# Altium footprint library PSU24_for_FAN.PcbLib: 28 footprints (part 2 of 2)
Each footprint in its own frame and in the unit in brackets; x right, y up, seen from the top. Pads: shape width x height; smd on the part's side, far side on the other; paste and mask are expansions set on the pad; w line width, h text height; cw(c..) or ccw(c..) is an arc to the next point about the centre after c.
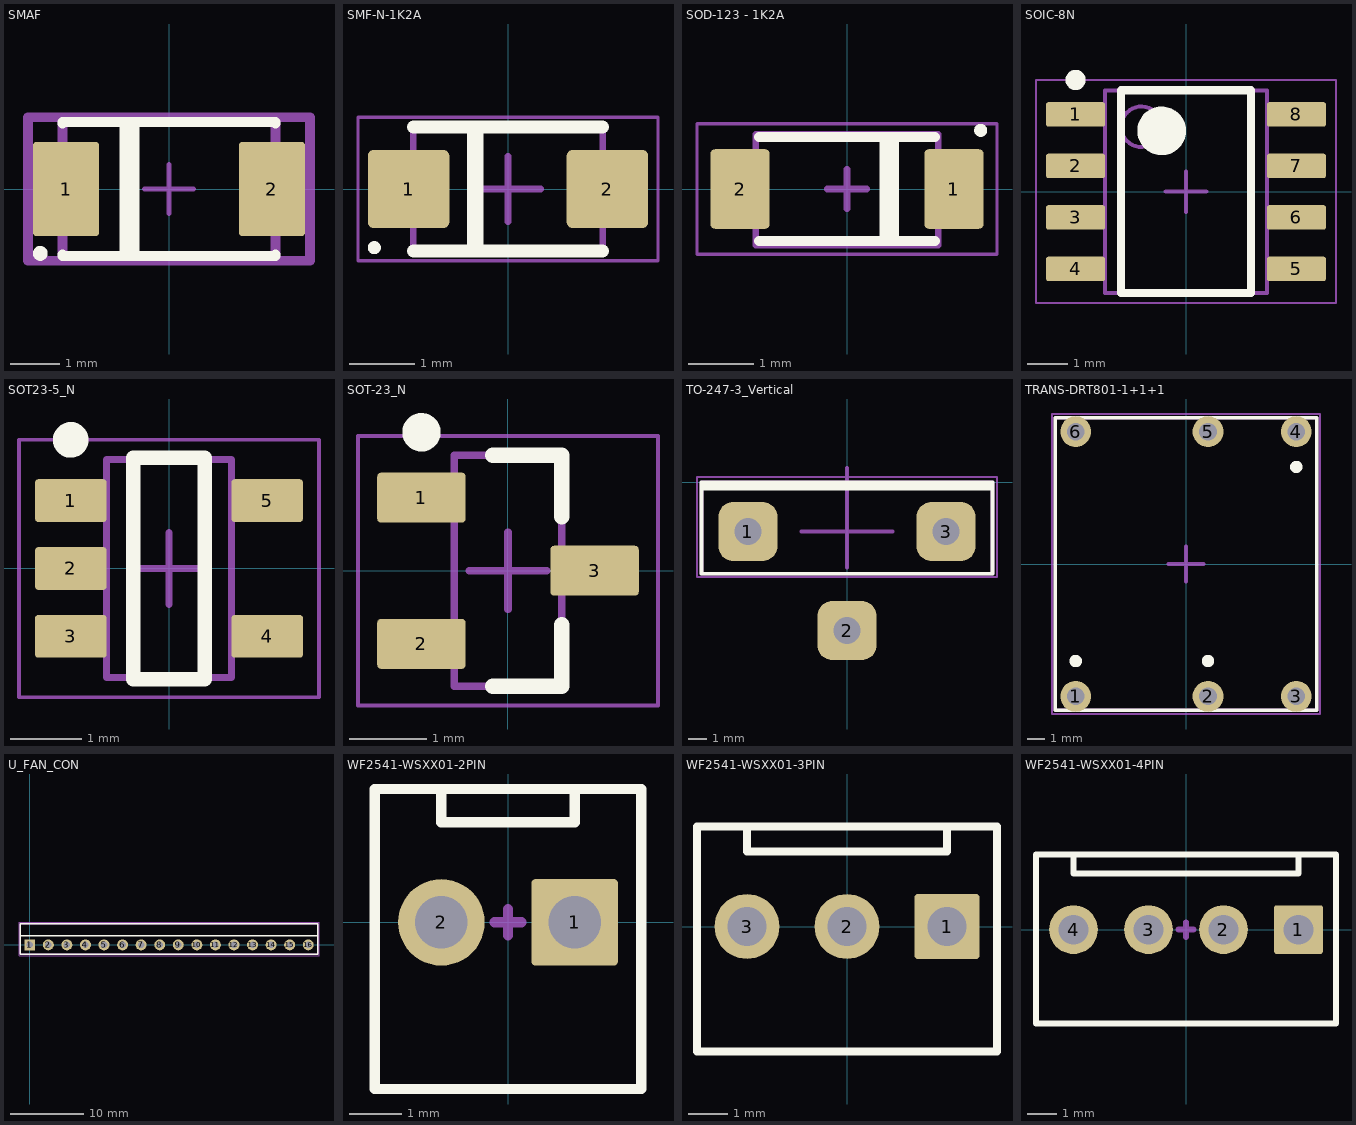
[diagram p1: the footprints below, top view; thin cyan lines are the x and y axes]

## SMAF [mm] "Flat SMA Package"
height 11.4
pads (2):
  rrect10% 1.34x1.9 smd paste+0 mask+0: 1(-2.08,0) 2(2.08,0)
Top Overlay:
  circle w0.2: c-2.6,-1.3 r0.05
  rectangle: -1,-1.35 -0.6,1.325
  lines w0.2: -2.15,-1.325 -2.15,-1.35 2.15,-1.35 2.15,-1.325 ; -2.15,1.325 -2.15,1.35 2.15,1.35 2.15,1.325
Top 3D Body:
  lines w0.2: -2.15,-1.35 2.15,-1.35 2.15,1.35 -2.15,1.35 -2.15,-1.35
Top Component Center:
  lines w0.1: -0.5,0 0.5,0 ; 0,-0.5 0,0.5
Top Assembly:
  lines w0.2: -2.85,-1.45 2.85,-1.45 2.85,1.45 -2.85,1.45 -2.85,-1.45
Top Courtyard:
  lines w0.2: -2.85,-1.45 2.85,-1.45 2.85,1.45 -2.85,1.45 -2.85,-1.45
3D body "Diode_ON_Semiconductor_FSV530AF_eec.STEP": height 1.1, standoff 0, extent -2.35,-1.25 2.35,1.25

## SMF-N-1K2A [mm] "SODFL, 2-Leads, Body 1.80x3.70mm, IPC Medium Density"
height 1.1
pads (2):
  rrect15% 1.25x1.2 smd: 1(-1.525,0) 2(1.525,0)
Top Overlay:
  circle w0.1: c-2.05,-0.9 r0.05
  region: -0.375,0.95 -0.625,0.95 -0.625,-0.95 -0.375,-0.95
  lines w0.2: -1.45,-0.95 1.45,-0.95 ; -1.45,0.95 1.45,0.95
Top Component Center:
  lines w0.1: -0.5,0 0.5,0 ; 0,-0.5 0,0.5
Top Assembly:
  lines w0.1: -1.45,-0.95 -1.45,0.95 1.45,0.95 1.45,-0.95 -1.45,-0.95
Top Courtyard:
  lines w0.05: -2.3,-1.1 -2.3,1.1 2.3,1.1 2.3,-1.1 -2.3,-1.1
3D body "DO-219AB SMF.step": height 1.25, standoff 0, extent -1.95,-0.95 1.95,0.95

## SOD-123 - 1K2A [mm] "SOD-123; 2 Leads; Body 2.7 x 1.6 mm, (LxW)"
height 1.15
pads (2):
  rrect15% 0.91x1.22 smd: 1(1.64,0) 2(-1.64,0)
Top Overlay:
  circle w0.1: c2.05,0.9 r0.05
  rectangle: 0.5,-0.8 0.8,0.8
  lines w0.152: -1.35,-0.8 1.35,-0.8 ; -1.35,0.8 1.35,0.8
Top Assembly:
  lines w0.1: -1.4,-0.862 1.4,-0.862 1.4,0.838 -1.4,0.838 -1.4,-0.862
Top Courtyard:
  lines w0.05: -2.3,-1 2.3,-1 2.3,1 -2.3,1 -2.3,-1
  lines w0.1: -0.3,0 0.3,0 ; 0,-0.3 0,0.3
3D body "SOD-123.step": height 1.42, standoff -0.03, extent -1.914,-0.862 1.936,0.838

## SOIC-8N [mm] "SOIC, 8-Leads, Body 5x4mm, Pitch 1.27mm, IPC Medium Density"
height 1.75
pads (8):
  rrect17% 1.45x0.6 smd: 1(-2.725,1.905) 2(-2.725,0.635) 3(-2.725,-0.635) 4(-2.725,-1.905) 5(2.725,-1.905) 6(2.725,-0.635) 7(2.725,0.635) 8(2.725,1.905)
Top Overlay:
  circle w0.6: c-0.6,1.5 r0.3
  circle w0.25: c-2.725,2.755 r0.125
  lines w0.2: -1.6,-2.5 1.6,-2.5 1.6,2.5 -1.6,2.5 -1.6,-2.5
Top Component Center:
  lines w0.1: -0.5,0 0.5,0 ; 0,-0.5 0,0.5
Top Assembly:
  circle w0.1: c-1.1,1.6 r0.5
  lines w0.1: -2,-2.5 2,-2.5 2,2.5 -2,2.5 -2,-2.5
Top Courtyard:
  lines w0.05: -3.7,-2.75 3.7,-2.75 3.7,2.75 -3.7,2.75 -3.7,-2.75
3D body "SOIC-8akaD0008AakaM08A.stp": height 1.63, standoff 0, extent -3,-2.45 3,2.45

## SOT23-5_N [mm] "SOT23, 5-Leads, Body 3.05x1.75mm, Pitch 0.95mm, IPC Medium Density"
height 1.45
pads (5):
  rrect15% 1x0.6 smd: 1(-1.375,0.95) 2(-1.375,0) 3(-1.375,-0.95) 4(1.375,-0.95) 5(1.375,0.95)
Top Overlay:
  circle w0.25: c-1.375,1.8 r0.125
  lines w0.2: -0.5,-1.55 0.5,-1.55 0.5,1.55 -0.5,1.55 -0.5,-1.55
Top Component Center:
  lines w0.1: -0.5,0 0.5,0 ; 0,-0.5 0,0.5
Top Assembly:
  lines w0.1: -0.875,-1.525 -0.875,1.525 0.875,1.525 0.875,-1.525 -0.875,-1.525
Top Courtyard:
  lines w0.05: -2.1,-1.8 -2.1,1.8 2.1,1.8 2.1,-1.8 -2.1,-1.8
3D body "DBV0005AaksMF05A.stp": height 1.08, standoff -0.01, extent -1.422,-1.461 1.422,1.46

## SOT-23_N [mm] "SOT23, 3-Leads, Body 2.9x1.3mm, Pitch 0.95mm, Lead Span 2.5mm, IPC Medium Density"
height 1.1
pads (3):
  rrect15% 1.15x0.65 smd: 1(-1.125,0.95) 2(-1.125,-0.95) 3(1.125,0)
Top Overlay:
  circle w0.25: c-1.125,1.8 r0.125
  lines w0.2: -0.2,-1.5 0.7,-1.5 0.7,-0.7 ; -0.2,1.5 0.7,1.5 0.7,0.7
Top Component Center:
  lines w0.1: -0.5,0 0.5,0 ; 0,-0.5 0,0.5
Top Assembly:
  lines w0.1: -0.7,-1.5 -0.7,1.5 0.7,1.5 0.7,-1.5 -0.7,-1.5
Top Courtyard:
  lines w0.05: -1.95,-1.75 1.95,-1.75 1.95,1.75 -1.95,1.75 -1.95,-1.75
3D body "SOT23-3.step": height 1.3, standoff 0, extent -1.4,-1.45 1.4,1.45

## TO-247-3_Vertical [mm] "TO-247AC 3-pin, Vertical"
height 20.5
pads (3):
  rrect50% 3.25x3.25 hole 1.5: 1(-5.45,-2.7) 2(0,-8.15) 3(5.45,-2.7)
Top Overlay:
  rectangle: -7.95,-0.45 8,0
  lines w0.2: -8,-5.03 8,-5.03 8,0 -8,0 -8,-5.03
Top Component Center:
  lines w0.2: -2.5,-2.7 2.5,-2.7 ; -1,0 1,0 ; 0,-4.7 0,0.8
Top Assembly:
  lines w0.2: -8,-5.03 8,-5.03 8,0 -8,0 -8,-5.03
Top Courtyard:
  lines w0.1: -8.25,-5.2 -8.25,0.3 0,0.3 8.25,0.3 8.25,-5.2 -8.25,-5.2
3D body "TO-247-3_Vertical.step": height 25.27, standoff -15.83, extent -7.95,-5.03 7.95,0

## TRANS-DRT801-1+1+1 [mm] "IGBT驱动变压器 DRT801/111B, 兵字"
height 20.5
pads (6):
  round 1.75 hole 1: 1(-6.25,-7.5) 2(1.25,-7.5) 3(6.25,-7.5) 4(6.25,7.5) 5(1.25,7.5) 6(-6.25,7.5)
Top Overlay:
  circle w0.5: c6.25,5.5 r0.1
  circle w0.5: c1.25,-5.5 r0.1
  circle w0.5: c-6.25,-5.5 r0.1
  lines w0.2: -7.4,-8.3 -7.4,8.3 7.4,8.3 7.4,-8.3 -7.4,-8.3
Top Component Center:
  lines w0.2: -1,0 1,0 ; 0,-1 0,1
Top Assembly:
  lines w0.2: 7.4,8.3 7.4,8.3 ; 7.4,8.3 -7.4,8.3 -7.4,-8.3 7.4,-8.3 7.4,8.3
Top Courtyard:
  lines w0.1: -7.6,-8.5 7.6,-8.5 7.6,8.5 -7.6,8.5 -7.6,-8.5
3D body: height 13.5, standoff 0, extent -7.4,-8.3 7.4,8.3

## U_FAN_CON [mm] "直流风扇控制专用模块"
height 20.5
pads (16):
  rect 1.5x1.5 hole 0.9: 1(0,0)
  round 1.5 hole 0.9: 2(2.54,0) 3(5.08,0) 4(7.62,0) 5(10.16,0) 6(12.7,0) 7(15.24,0) 8(17.78,0) 9(20.32,0) 10(22.86,0) 11(25.4,0) 12(27.94,0) 13(30.48,0) 14(33.02,0) 15(35.56,0) 16(38.1,0)
Top Overlay:
  lines w0.2: -1.27,1.27 -1.27,2.87 39.37,2.87 39.37,1.27 ; -1.27,1.27 -1.27,-1.27 39.37,-1.27 39.37,1.27 ; -1.27,1.27 0.635,1.27 39.37,1.27
Top Assembly:
  lines w0.2: -1.27,-1.27 -1.27,2.87 39.37,2.87 39.37,-1.27 -1.27,-1.27
Top Courtyard:
  lines w0.1: -1.47,-1.47 39.57,-1.47 39.57,3.07 -1.47,3.07 -1.47,-1.47
3D body: height 35, standoff 1, extent -1.27,1.27 39.37,2.87

## WF2541-WSXX01-2PIN [mil] "WF2541 Wafer 180deg"
height 448.82
pads (2):
  rrect10% 65x65 hole 39.37: 1(50,0)
  round 65 hole 39.37: 2(-50,0)
Top Overlay:
  lines w7.87: -50,100 -50,75 50,75 50,100 ; -100,-125 -100,100 100,100 100,-125 -100,-125
Top Component Center:
  lines w7.87: -9.84,0 9.84,0 ; 0,-9.84 0,9.84

## WF2541-WSXX01-3PIN [mil] "WF2541 Wafer 180deg"
height 448.82
pads (3):
  rrect10% 65x65 hole 39.37: 1(100,0)
  round 65 hole 39.37: 2(0,0) 3(-100,0)
Top Overlay:
  lines w7.87: -100,100 -100,75 100,75 100,100 ; -150,-125 150,-125 150,100 -150,100 -150,-125

## WF2541-WSXX01-4PIN [mil] "WF2541 Wafer 180deg"
height 448.82
pads (4):
  rrect10% 65x65 hole 39.37: 1(150,0)
  round 65 hole 39.37: 2(50,0) 3(-50,0) 4(-150,0)
Top Overlay:
  lines w7.87: -150,100 -150,75 150,75 150,100 ; -200,-125 200,-125 200,100 -200,100 -200,-125
Top Component Center:
  lines w7.87: -9.84,0 9.84,0 ; 0,-9.84 0,9.84